# EAGLE library part BQ28Z610 (library PowerComponents)
2S LiPo balancer/fuel gauge
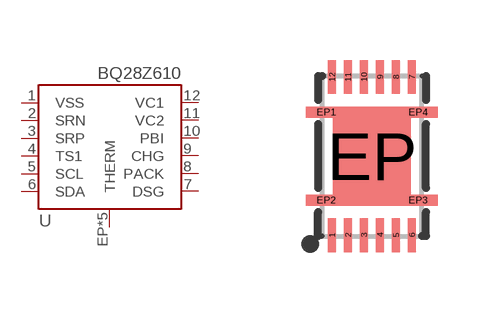
[diagram p1: symbol with the pads of PDSO-N12; footprint PDSO-N12]

Designator prefix U

## BQ28Z610  [PDSO-N12]
1  VSS
2  SRN
3  SRP
4  TS1
5  SCL
6  SDA
7  DSG
8  PACK
9  CHG
10  PBI
11  VC2
12  VC1
EP  THERM
EP1  THERM
EP2  THERM
EP3  THERM
EP4  THERM

## Footprint PDSO-N12 (pad centres in mm)
12-Pin VSON 2.5 x 4.0 mm IC Dimensions: 2.5 x 4.0 x 1.0 mm Pitch: 0.4mm Pins: 12 + Bottom Pad Used by the BQ27441 LiPo Fuel Gauge Example Datasheet <http://www.ti.com/lit/ds/symlink/bq27441-g1.pdf>
smd 0.2 x 0.85: 1 -1,-1.975; 2 -0.6,-1.975; 3 -0.2,-1.975; 4 0.2,-1.975; 5 0.6,-1.975; 6 1,-1.975; 7 1,1.975; 8 0.6,1.975; 9 0.2,1.975; 10 -0.2,1.975; 11 -0.6,1.975; 12 -1,1.975
smd 1.95 x 1.95: EP 0,0
smd 1 x 0.25: EP1 -1.15,1.1; EP2 -1.15,-1.1; EP3 1.15,-1.1; EP4 1.15,1.1